# Altium footprint library Посадочные места-2.PcbLib: 4 footprints
Each footprint in its own frame and in the unit in brackets; x right, y up, seen from the top. Pads: shape width x height; smd on the part's side, far side on the other; paste and mask are expansions set on the pad; w line width, h text height; cw(c..) or ccw(c..) is an arc to the next point about the centre after c.
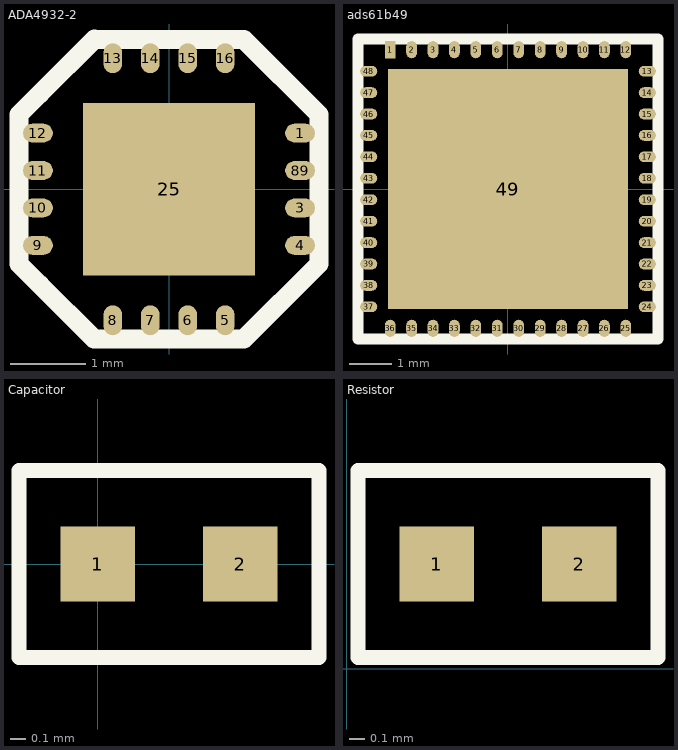
[diagram p0: the footprints below, top view; thin cyan lines are the x and y axes]

## ADA4932-2 [mm]
height 0.75
pads (17):
  oval 0.4x0.25 smd: 1(1.75,0.75) 3(1.75,-0.25) 4(1.75,-0.75) 9(-1.75,-0.75) 10(-1.75,-0.25) 11(-1.75,0.25) 12(-1.75,0.75) 89(1.75,0.25)
  oval 0.25x0.4 smd: 5(0.75,-1.75) 6(0.25,-1.75) 7(-0.25,-1.75) 8(-0.75,-1.75) 13(-0.75,1.75) 14(-0.25,1.75) 15(0.25,1.75) 16(0.75,1.75)
  rect 2.3x2.3 smd: 25(0,0)
Top Overlay:
  lines w0.254: -1.725,1.275 -0.994,2.006 -1.131,1.869 -2,1 -2,-1 -1.725,-1.275 -1,-2 1,-2 2,-1 2,1 1,2 -1,2

## ads61b49 [mm]
height 1
pads (49):
  rect 0.25x0.4 smd: 1(-2.75,3.25)
  oval 0.25x0.4 smd: 2(-2.25,3.25) 3(-1.75,3.25) 4(-1.25,3.25) 5(-0.75,3.25) 6(-0.25,3.25) 7(0.25,3.25) 8(0.75,3.25) 9(1.25,3.25) 10(1.75,3.25) 11(2.25,3.25) 12(2.75,3.25) 25(2.75,-3.25) 26(2.25,-3.25) 27(1.75,-3.25) 28(1.25,-3.25) 29(0.75,-3.25) 30(0.25,-3.25) 31(-0.25,-3.25) 32(-0.75,-3.25) 33(-1.25,-3.25) 34(-1.75,-3.25) 35(-2.25,-3.25) 36(-2.75,-3.25)
  oval 0.4x0.25 smd: 13(3.25,2.75) 14(3.25,2.25) 15(3.25,1.75) 16(3.25,1.25) 17(3.25,0.75) 18(3.25,0.25) 19(3.25,-0.25) 20(3.25,-0.75) 21(3.25,-1.25) 22(3.25,-1.75) 23(3.25,-2.25) 24(3.25,-2.75) 37(-3.25,-2.75) 38(-3.25,-2.25) 39(-3.25,-1.75) 40(-3.25,-1.25) 41(-3.25,-0.75) 42(-3.25,-0.25) 43(-3.25,0.25) 44(-3.25,0.75) 45(-3.25,1.25) 46(-3.25,1.75) 47(-3.25,2.25) 48(-3.25,2.75)
  rect 5.6x5.6 smd: 49(0,0)
Top Overlay:
  lines w0.254: -3.5,-3.5 3.5,-3.5 3.5,3.5 -3.5,3.5 -3.5,-3.5

## Capacitor [mm]
height 1
pads (2):
  rect 0.5x0.5 smd: 1(0,0) 2(0.95,0)
Top Overlay:
  lines w0.1: -0.525,-0.625 -0.525,0.625 1.475,0.625 1.475,-0.625 -0.525,-0.625

## Resistor [mm]
height 1
pads (2):
  rect 0.5x0.5 smd: 1(0.6,0.7) 2(1.55,0.7)
Top Overlay:
  lines w0.1: 0.075,0.075 2.075,0.075 2.075,1.325 0.075,1.325 0.075,0.075